# Altium schematic symbol library 130k_resistor_0805_Components - 05.03.22 - 13.05.SchLib: 1 symbol
Pins are listed as number, name and electrical type; pins without a type are passive.

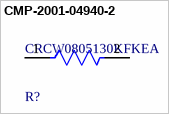
[diagram p0: symbol CMP-2001-04940-2]

## CMP-2001-04940-2
designator R?, comment CRCW0805130KFKEA
RES Thick Film, 130kΩ, 1%, 0.125W, 100ppm/°C, 0805; Working Voltage: 150V; Resistance: 130kR; Max Power Dissipation: 125mW; Case/Package: 0805; Packaging: Tape and Reel; Max Operating Temperature: 155°C; Military Standard: Not; Min Operating Temperature: -55°C; Composition: Thick Film; Package Quantity: 10; Width: 1.25mm; Number of Pins: 2; Mount: Surface Mount; Lead Free: Lead Free; Termination: SMD/SMT; Weight: 0.000194oz; Features: Automotive AEC-Q200; Radiation Hardening: No; Case Code (Imperial): 0805; Depth: 1.25mm; Voltage Rating (DC): 150V; Length: 2mm; Number of Terminations: 2; Power Rating: 125mW; Case Code (Metric): 2012; Voltage Rating: 150V; Contact Plating: Tin; Temperature Coefficient: 100ppm/°C; Tolerance: 1%; Height: 0.45mm
footprint FP-CRCW0805-e3-MFG
footprint FP-CRCW0805-e3-IPC_A
footprint FP-CRCW0805-e3-IPC_C
footprint FP-CRCW0805-e3-IPC_B
pins: 1, 2